# EAGLE library part 27512 (library memories)
EPROM 64K x 8 bits
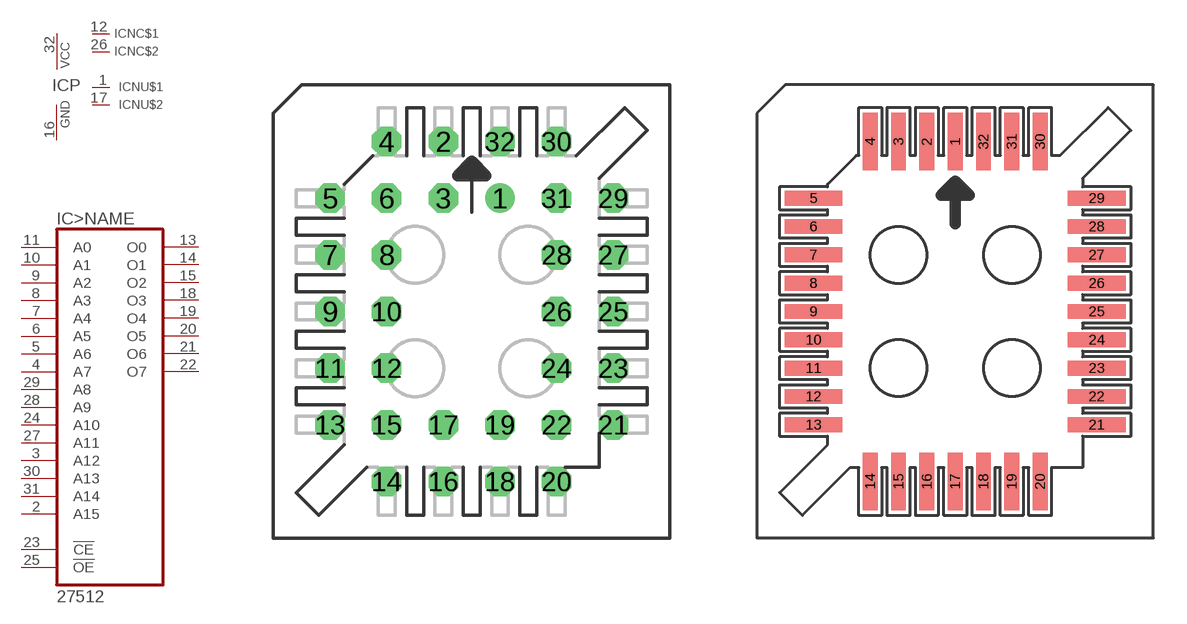
[diagram p8: symbol with the pads of PLCC-S32; footprints PLCC-S32, PLCCSM32]

Designator prefix IC; gates >NAME=27512 P=PWRN NC$1=NC NC$2=NC NU$1=NU NU$2=NU

## 27512S  [PLCC-S32]
1  NU$1:IC-NU  nc
2  >NAME:A15  in
3  >NAME:A12  in
4  >NAME:A7  in
5  >NAME:A6  in
6  >NAME:A5  in
7  >NAME:A4  in
8  >NAME:A3  in
9  >NAME:A2  in
10  >NAME:A1  in
11  >NAME:A0  in
12  NC$1:NC  nc
13  >NAME:O0  hiz
14  >NAME:O1  hiz
15  >NAME:O2  hiz
16  P:GND  pwr
17  NU$2:IC-NU  nc
18  >NAME:O3  hiz
19  >NAME:O4  hiz
20  >NAME:O5  hiz
21  >NAME:O6  hiz
22  >NAME:O7  hiz
23  >NAME:!CE  in
24  >NAME:A10  in
25  >NAME:!OE  in
26  NC$2:NC  nc
27  >NAME:A11  in
28  >NAME:A9  in
29  >NAME:A8  in
30  >NAME:A13  in
31  >NAME:A14  in
32  P:VCC  pwr

## 27512SMT  [PLCCSM32]
Pads as for PLCC-S32

## 27512  [PLCC32]
Pads as for PLCC-S32

## Footprint PLCC-S32 (pad centres in mm)
Plastic Leaded Chip Carrier Socket
drill 0.813: 1 1.27,5.08
drill 0.813 octagon: 2 -1.27,7.62; 3 -1.27,5.08; 4 -3.81,7.62; 5 -6.35,5.08; 6 -3.81,5.08; 7 -6.35,2.54; 8 -3.81,2.54; 9 -6.35,0; 10 -3.81,0; 11 -6.35,-2.54; 12 -3.81,-2.54; 13 -6.35,-5.08; 14 -3.81,-7.62; 15 -3.81,-5.08; 16 -1.27,-7.62; 17 -1.27,-5.08; 18 1.27,-7.62; 19 1.27,-5.08; 20 3.81,-7.62; 21 6.35,-5.08; 22 3.81,-5.08; 23 6.35,-2.54; 24 3.81,-2.54; 25 6.35,0; 26 3.81,0; 27 6.35,2.54; 28 3.81,2.54; 29 6.35,5.08; 30 3.81,7.62; 31 3.81,5.08; 32 1.27,7.62

## Footprint PLCCSM32 (pad centres in mm)
smd 0.66 x 2.591: 1 0,7.62; 2 -1.27,7.62; 3 -2.54,7.62; 4 -3.81,7.62; 14 -3.81,-7.62; 15 -2.54,-7.62; 16 -1.27,-7.62; 17 0,-7.62; 18 1.27,-7.62; 19 2.54,-7.62; 20 3.81,-7.62; 30 3.81,7.62; 31 2.54,7.62; 32 1.27,7.62
smd 2.591 x 0.66: 5 -6.35,5.08; 6 -6.35,3.81; 7 -6.35,2.54; 8 -6.35,1.27; 9 -6.35,0; 10 -6.35,-1.27; 11 -6.35,-2.54; 12 -6.35,-3.81; 13 -6.35,-5.08; 21 6.35,-5.08; 22 6.35,-3.81; 23 6.35,-2.54; 24 6.35,-1.27; 25 6.35,0; 26 6.35,1.27; 27 6.35,2.54; 28 6.35,3.81; 29 6.35,5.08

## Footprint PLCC32 (pad centres in mm)
PLASTIC LEADED CHIP CARRIER rectangle, package type L
smd 2.2 x 0.6: 1 -6.83,0; 2 -6.83,-1.27; 3 -6.83,-2.54; 4 -6.83,-3.81; 14 6.83,-3.81; 15 6.83,-2.54; 16 6.83,-1.27; 17 6.83,0; 18 6.83,1.27; 19 6.83,2.54; 20 6.83,3.81; 30 -6.83,3.81; 31 -6.83,2.54; 32 -6.83,1.27
smd 0.6 x 2.2: 5 -5.08,-5.56; 6 -3.81,-5.56; 7 -2.54,-5.56; 8 -1.27,-5.56; 9 0,-5.56; 10 1.27,-5.56; 11 2.54,-5.56; 12 3.81,-5.56; 13 5.08,-5.56; 21 5.08,5.56; 22 3.81,5.56; 23 2.54,5.56; 24 1.27,5.56; 25 0,5.56; 26 -1.27,5.56; 27 -2.54,5.56; 28 -3.81,5.56; 29 -5.08,5.56